# EAGLE library part PIC24FXXKL100 (library microchip2)
PIC24FXXKL100
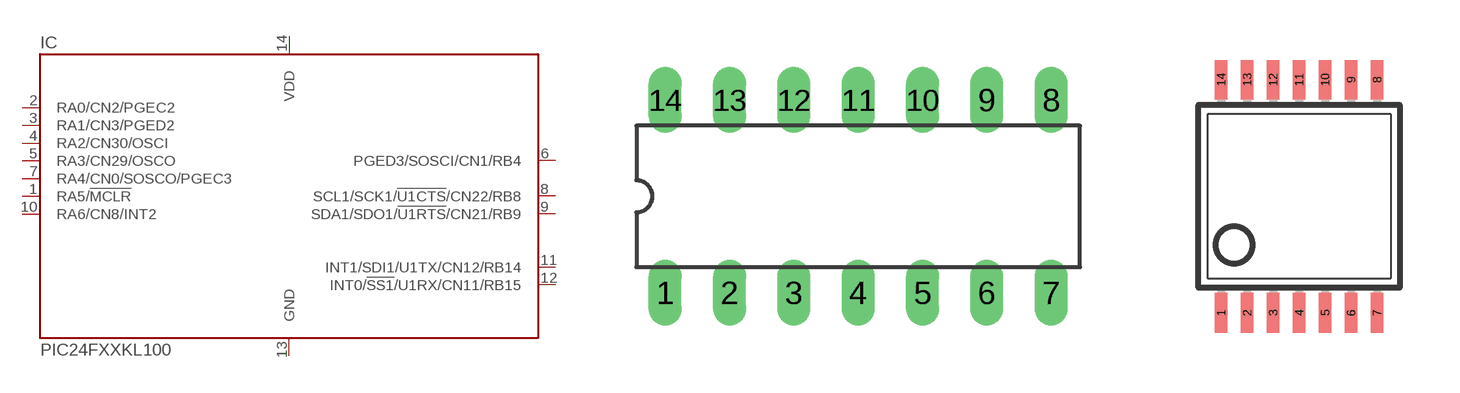
[diagram p172: symbol with the pads of DIL14; footprints DIL14, TSSOP14]

Designator prefix IC

## PIC24FXXKL100-P  [DIL14]
1  RA5/!MCLR
2  RA0/CN2/PGEC2
3  RA1/CN3/PGED2
4  RA2/CN30/OSCI
5  RA3/CN29/OSCO
6  PGED3/SOSCI/CN1/RB4
7  RA4/CN0/SOSCO/PGEC3
8  SCL1/SCK1/!U1CTS!/CN22/RB8
9  SDA1/SDO1/!U1RTS!/CN21/RB9
10  RA6/CN8/INT2
11  INT1/SDI1/U1TX/CN12/RB14
12  INT0/!SS1!/U1RX/CN11/RB15
13  GND  pwr
14  VDD  pwr

## PIC24FXXKL100-ST  [TSSOP14]
Pads as for DIL14

## Footprint DIL14 (pad centres in mm)
Dual In Line Package
drill 0.8 long: 1 -7.62,-3.81; 2 -5.08,-3.81; 3 -2.54,-3.81; 4 0,-3.81; 5 2.54,-3.81; 6 5.08,-3.81; 7 7.62,-3.81; 8 7.62,3.81; 9 5.08,3.81; 10 2.54,3.81; 11 0,3.81; 12 -2.54,3.81; 13 -5.08,3.81; 14 -7.62,3.81

## Footprint TSSOP14 (pad centres in mm)
Thin Shrink Small Outline Plastic 14
smd 0.305 x 0.991: 1 -1.95,-2.918; 2 -1.3,-2.918; 3 -0.65,-2.918; 4 0,-2.918; 5 0.65,-2.918; 6 1.3,-2.918; 7 1.95,-2.918; 8 1.95,2.918; 9 1.3,2.918; 10 0.65,2.918; 11 0,2.918; 12 -0.65,2.918; 13 -1.3,2.918; 14 -1.95,2.918